# Altium schematic symbol library Jaden.SchLib: 4 symbols
Pins are listed as number, name and electrical type; pins without a type are passive.

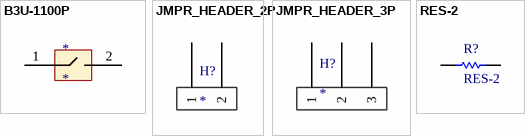
[diagram p0: symbols B3U-1100P to RES-2]

## B3U-1100P
designator *
pins: 1, 2 NO_PUSH

## JMPR_HEADER_2P
designator H?
footprint STD2P
pins: 1, 2

## JMPR_HEADER_3P
designator H?
footprint STD3P
pins: 1, 2, 3

## RES-2
designator R?
pins: 1, 2